# EAGLE library part HDI-160FB (library con-amp)
AMP connector
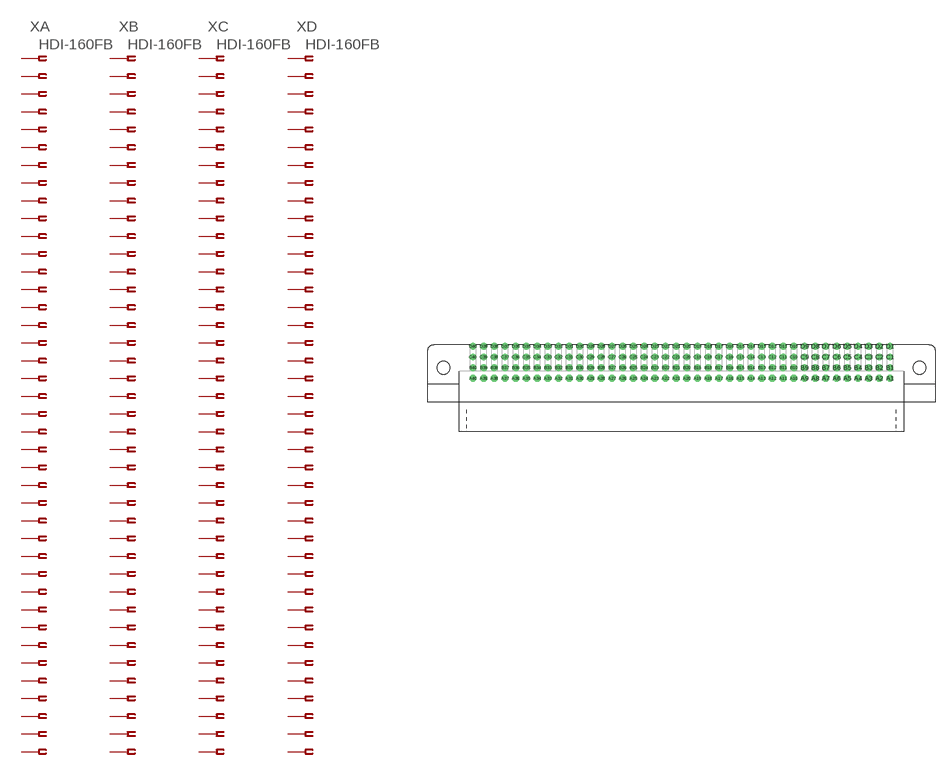
[diagram p134: symbol with the pads of HDI-160F; footprint HDI-160F]

Designator prefix X; gates A=PIN40F B=PIN40F C=PIN40F D=PIN40F

## HDI-160FB  [HDI-160F]
A1  A:1  pas
A2  A:2  pas
A3  A:3  pas
A4  A:4  pas
A5  A:5  pas
A6  A:6  pas
A7  A:7  pas
A8  A:8  pas
A9  A:9  pas
A10  A:10  pas
A11  A:11  pas
A12  A:12  pas
A13  A:13  pas
A14  A:14  pas
A15  A:15  pas
A16  A:16  pas
A17  A:17  pas
A18  A:18  pas
A19  A:19  pas
A20  A:20  pas
A21  A:21  pas
A22  A:22  pas
A23  A:23  pas
A24  A:24  pas
A25  A:25  pas
A26  A:26  pas
A27  A:27  pas
A28  A:28  pas
A29  A:29  pas
A30  A:30  pas
A31  A:31  pas
A32  A:32  pas
A33  A:33  pas
A34  A:34  pas
A35  A:35  pas
A36  A:36  pas
A37  A:37  pas
A38  A:38  pas
A39  A:39  pas
A40  A:40  pas
B1  B:1  pas
B2  B:2  pas
B3  B:3  pas
B4  B:4  pas
B5  B:5  pas
B6  B:6  pas
B7  B:7  pas
B8  B:8  pas
B9  B:9  pas
B10  B:10  pas
B11  B:11  pas
B12  B:12  pas
B13  B:13  pas
B14  B:14  pas
B15  B:15  pas
B16  B:16  pas
B17  B:17  pas
B18  B:18  pas
B19  B:19  pas
B20  B:20  pas
B21  B:21  pas
B22  B:22  pas
B23  B:23  pas
B24  B:24  pas
B25  B:25  pas
B26  B:26  pas
B27  B:27  pas
B28  B:28  pas
B29  B:29  pas
B30  B:30  pas
B31  B:31  pas
B32  B:32  pas
B33  B:33  pas
B34  B:34  pas
B35  B:35  pas
B36  B:36  pas
B37  B:37  pas
B38  B:38  pas
B39  B:39  pas
B40  B:40  pas
C1  C:1  pas
C2  C:2  pas
C3  C:3  pas
C4  C:4  pas
C5  C:5  pas
C6  C:6  pas
C7  C:7  pas
C8  C:8  pas
C9  C:9  pas
C10  C:10  pas
C11  C:11  pas
C12  C:12  pas
C13  C:13  pas
C14  C:14  pas
C15  C:15  pas
C16  C:16  pas
C17  C:17  pas
C18  C:18  pas
C19  C:19  pas
C20  C:20  pas
C21  C:21  pas
C22  C:22  pas
C23  C:23  pas
C24  C:24  pas
C25  C:25  pas
C26  C:26  pas
C27  C:27  pas
C28  C:28  pas
C29  C:29  pas
C30  C:30  pas
C31  C:31  pas
C32  C:32  pas
C33  C:33  pas
C34  C:34  pas
C35  C:35  pas
C36  C:36  pas
C37  C:37  pas
C38  C:38  pas
C39  C:39  pas
C40  C:40  pas
D1  D:1  pas
D2  D:2  pas
D3  D:3  pas
D4  D:4  pas
D5  D:5  pas
D6  D:6  pas
D7  D:7  pas
D8  D:8  pas
D9  D:9  pas
D10  D:10  pas
D11  D:11  pas
D12  D:12  pas
D13  D:13  pas
D14  D:14  pas
D15  D:15  pas
D16  D:16  pas
D17  D:17  pas
D18  D:18  pas
D19  D:19  pas
D20  D:20  pas
D21  D:21  pas
D22  D:22  pas
D23  D:23  pas
D24  D:24  pas
D25  D:25  pas
D26  D:26  pas
D27  D:27  pas
D28  D:28  pas
D29  D:29  pas
D30  D:30  pas
D31  D:31  pas
D32  D:32  pas
D33  D:33  pas
D34  D:34  pas
D35  D:35  pas
D36  D:36  pas
D37  D:37  pas
D38  D:38  pas
D39  D:39  pas
D40  D:40  pas

## Footprint HDI-160F (pad centres in mm)
AMP connector
drill 1.09 octagon: A1 49.53,-2.54; A2 46.99,-2.54; A3 44.45,-2.54; A4 41.91,-2.54; A5 39.37,-2.54; A6 36.83,-2.54; A7 34.29,-2.54; A8 31.75,-2.54; A9 29.21,-2.54; A10 26.67,-2.54; A11 24.13,-2.54; A12 21.59,-2.54; A13 19.05,-2.54; A14 16.51,-2.54; A15 13.97,-2.54; A16 11.43,-2.54; A17 8.89,-2.54; A18 6.35,-2.54; A19 3.81,-2.54; A20 1.27,-2.54; A21 -1.27,-2.54; A22 -3.81,-2.54; A23 -6.35,-2.54; A24 -8.89,-2.54; A25 -11.43,-2.54; A26 -13.97,-2.54; A27 -16.51,-2.54; A28 -19.05,-2.54; A29 -21.59,-2.54; A30 -24.13,-2.54; A31 -26.67,-2.54; A32 -29.21,-2.54; A33 -31.75,-2.54; A34 -34.29,-2.54; A35 -36.83,-2.54; A36 -39.37,-2.54; A37 -41.91,-2.54; A38 -44.45,-2.54; A39 -46.99,-2.54; A40 -49.53,-2.54
drill 1.09: B1 49.53,0; B2 46.99,0; B3 44.45,0; B4 41.91,0; B5 39.37,0; B6 36.83,0; B7 34.29,0; B8 31.75,0; B9 29.21,0; B10 26.67,0; B11 24.13,0; B12 21.59,0; B13 19.05,0; B14 16.51,0; B15 13.97,0; B16 11.43,0; B17 8.89,0; B18 6.35,0; B19 3.81,0; B20 1.27,0; B21 -1.27,0; B22 -3.81,0; B23 -6.35,0; B24 -8.89,0; B25 -11.43,0; B26 -13.97,0; B27 -16.51,0; B28 -19.05,0; B29 -21.59,0; B30 -24.13,0; B31 -26.67,0; B32 -29.21,0; B33 -31.75,0; B34 -34.29,0; B35 -36.83,0; B36 -39.37,0; B37 -41.91,0; B38 -44.45,0; B39 -46.99,0; B40 -49.53,0; C1 49.53,2.54; C2 46.99,2.54; C3 44.45,2.54; C4 41.91,2.54; C5 39.37,2.54; C6 36.83,2.54; C7 34.29,2.54; C8 31.75,2.54; C9 29.21,2.54; C10 26.67,2.54; C11 24.13,2.54; C12 21.59,2.54; C13 19.05,2.54; C14 16.51,2.54; C15 13.97,2.54; C16 11.43,2.54; C17 8.89,2.54; C18 6.35,2.54; C19 3.81,2.54; C20 1.27,2.54; C21 -1.27,2.54; C22 -3.81,2.54; C23 -6.35,2.54; C24 -8.89,2.54; C25 -11.43,2.54; C26 -13.97,2.54; C27 -16.51,2.54; C28 -19.05,2.54; C29 -21.59,2.54; C30 -24.13,2.54; C31 -26.67,2.54; C32 -29.21,2.54; C33 -31.75,2.54; C34 -34.29,2.54; C35 -36.83,2.54; C36 -39.37,2.54; C37 -41.91,2.54; C38 -44.45,2.54; C39 -46.99,2.54; C40 -49.53,2.54; D1 49.53,5.08; D2 46.99,5.08; D3 44.45,5.08; D4 41.91,5.08; D5 39.37,5.08; D6 36.83,5.08; D7 34.29,5.08; D8 31.75,5.08; D9 29.21,5.08; D10 26.67,5.08; D11 24.13,5.08; D12 21.59,5.08; D13 19.05,5.08; D14 16.51,5.08; D15 13.97,5.08; D16 11.43,5.08; D17 8.89,5.08; D18 6.35,5.08; D19 3.81,5.08; D20 1.27,5.08; D21 -1.27,5.08; D22 -3.81,5.08; D23 -6.35,5.08; D24 -8.89,5.08; D25 -11.43,5.08; D26 -13.97,5.08; D27 -16.51,5.08; D28 -19.05,5.08; D29 -21.59,5.08; D30 -24.13,5.08; D31 -26.67,5.08; D32 -29.21,5.08; D33 -31.75,5.08; D34 -34.29,5.08; D35 -36.83,5.08; D36 -39.37,5.08; D37 -41.91,5.08; D38 -44.45,5.08; D39 -46.99,5.08; D40 -49.53,5.08
hole 3.05 at -56.51,0
hole 3.05 at 56.51,0